# EAGLE library part MINI560PRO (library modules)
DC-DC step down buck converter. Vin 7-32 V / 4 A / 500 kHz
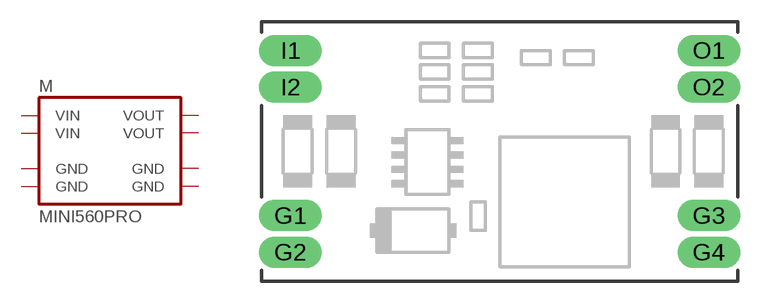
[diagram p0: symbol with the pads of MINI560PRO; footprint MINI560PRO]

Designator prefix M

## MINI560PRO-12V, MINI560PRO-3V3, MINI560PRO-5V, MINI560PRO-9V  [MINI560PRO]
G1  GND  pwr
G2  GND  pwr
G3  GND  pwr
G4  GND  pwr
I1  VIN  pwr
I2  VIN  pwr
O1  VOUT  out
O2  VOUT  out

## Footprint MINI560PRO (pad centres in mm)
drill 1 pad 2.184 long: G1 -14.5,-4.46; G2 -14.5,-7; G3 14.5,-4.46; G4 14.5,-7; I1 -14.5,7; I2 -14.5,4.46; O1 14.5,7; O2 14.5,4.46